# EAGLE library part EADOGM128 (library Projekt)
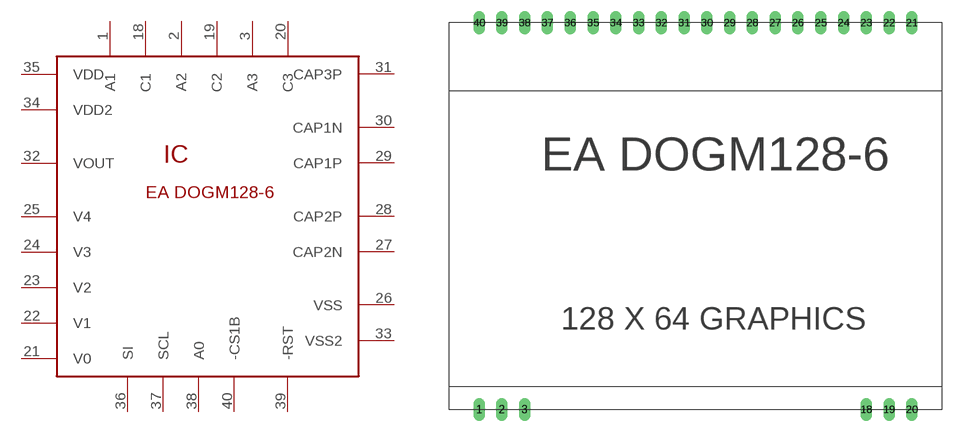
[diagram p2: symbol with the pads of EADOGM128; footprint EADOGM128]

Designator prefix IC

## EADOGM128  [EADOGM128]
1  A1  pas
2  A2  pas
3  A3  pas
18  C1  pas
19  C2  pas
20  C3  pas
21  V0  pas
22  V1  pas
23  V2  pas
24  V3  pas
25  V4  pas
26  VSS  pwr
27  CAP2N  pas
28  CAP2P  pas
29  CAP1P  pas
30  CAP1N  pas
31  CAP3P  pas
32  VOUT  pas
33  VSS2  pwr
34  VDD2  pwr
35  VDD  pwr
36  SI  in
37  SCL  in
38  A0  in
39  -RST  in
40  -CS1B  in

## Footprint EADOGM128 (pad centres in mm)
drill 0.8 long: 1 -24.13,-21.59; 2 -21.59,-21.59; 3 -19.05,-21.59; 18 19.05,-21.59; 19 21.59,-21.59; 20 24.13,-21.59; 21 24.13,21.59; 22 21.59,21.59; 23 19.05,21.59; 24 16.51,21.59; 25 13.97,21.59; 26 11.43,21.59; 27 8.89,21.59; 28 6.35,21.59; 29 3.81,21.59; 30 1.27,21.59; 31 -1.27,21.59; 32 -3.81,21.59; 33 -6.35,21.59; 34 -8.89,21.59; 35 -11.43,21.59; 36 -13.97,21.59; 37 -16.51,21.59; 38 -19.05,21.59; 39 -21.59,21.59; 40 -24.13,21.59